# EAGLE library part BQ50002 (library Tristan+Robitaille_s+Library)
BQ50002 Low-Cost 5-V Wireless Power Transmitter Analog Front End for WPC V 1.2 A11 Transmitters Technical specifications: Supply voltage range: 4.5V~5.5V Operating temperature range: -40°C ~ 125°C Must be used with BQ500511 WPC Controller AFE Compatible with Wireless Power Consortium (WPC) V1.2 A11 Low Power Transmitter Specification Supports 5W on the receiver output Datasheet <http://www.ti.com/lit/ds/symlink/bq50002.pdf> Digi-Key part #: 296-43166-1-ND <http://www.digikey.ca/product-detail/en/texas-instruments/BQ50002RHBR/296-43166-1-ND/5725076> Mouser part #: 595-BQ50002RHBR <http://ca.mouser.com/ProductDetail/Texas-Instruments/BQ50002RHBR/?qs=sGAEpiMZZMvsTkZFiuFJvxfTIA6ymDzcHIAMHsgecEZ48wbYO%252bkEfQ%3d%3d> Manufacturer part #: BQ50002RHBR
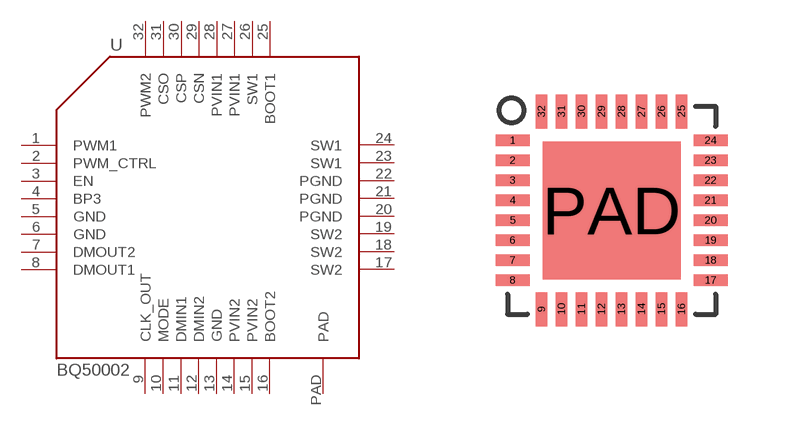
[diagram p17: symbol with the pads of S-PVQFN_N32; footprint S-PVQFN_N32]

Designator prefix U

## BQ50002 (DIGIKEY#: 296-43166-1-ND; MANF: bq50002 Analog Front End; MANF#: BQ50002RHBR; MOUSER#: 595-BQ50002RHBR)  [S-PVQFN_N32]
1  PWM1
2  PWM_CTRL
3  EN  in
4  BP3
5  GND  pwr
6  GND  pwr
7  DMOUT2  out
8  DMOUT1  out
9  CLK_OUT  out
10  MODE  in
11  DMIN1  in
12  DMIN2  in
13  GND  pwr
14  PVIN2  pwr
15  PVIN2  pwr
16  BOOT2
17  SW2  out
18  SW2  out
19  SW2  out
20  PGND  pwr
21  PGND  pwr
22  PGND  pwr
23  SW1  out
24  SW1  out
25  BOOT1
26  SW1  out
27  PVIN1  pwr
28  PVIN1  pwr
29  CSN  in
30  CSP  in
31  CSO  out
32  PWM2  in
PAD  PAD

## Footprint S-PVQFN_N32 (pad centres in mm)
smd 0.85 x 0.28: 1 -2.475,1.75; 2 -2.475,1.25; 3 -2.475,0.75; 4 -2.475,0.25; 5 -2.475,-0.25; 6 -2.475,-0.75; 7 -2.475,-1.25; 8 -2.475,-1.75; 17 2.475,-1.75; 18 2.475,-1.25; 19 2.475,-0.75; 20 2.475,-0.25; 21 2.475,0.25; 22 2.475,0.75; 23 2.475,1.25; 24 2.475,1.75
smd 0.28 x 0.85: 9 -1.75,-2.475; 10 -1.25,-2.475; 11 -0.75,-2.475; 12 -0.25,-2.475; 13 0.25,-2.475; 14 0.75,-2.475; 15 1.25,-2.475; 16 1.75,-2.475; 25 1.75,2.475; 26 1.25,2.475; 27 0.75,2.475; 28 0.25,2.475; 29 -0.25,2.475; 30 -0.75,2.475; 31 -1.25,2.475; 32 -1.75,2.475
smd 3.45 x 3.45: PAD 0,0